# EAGLE library part STM32L412 (library pimoroni-ics)
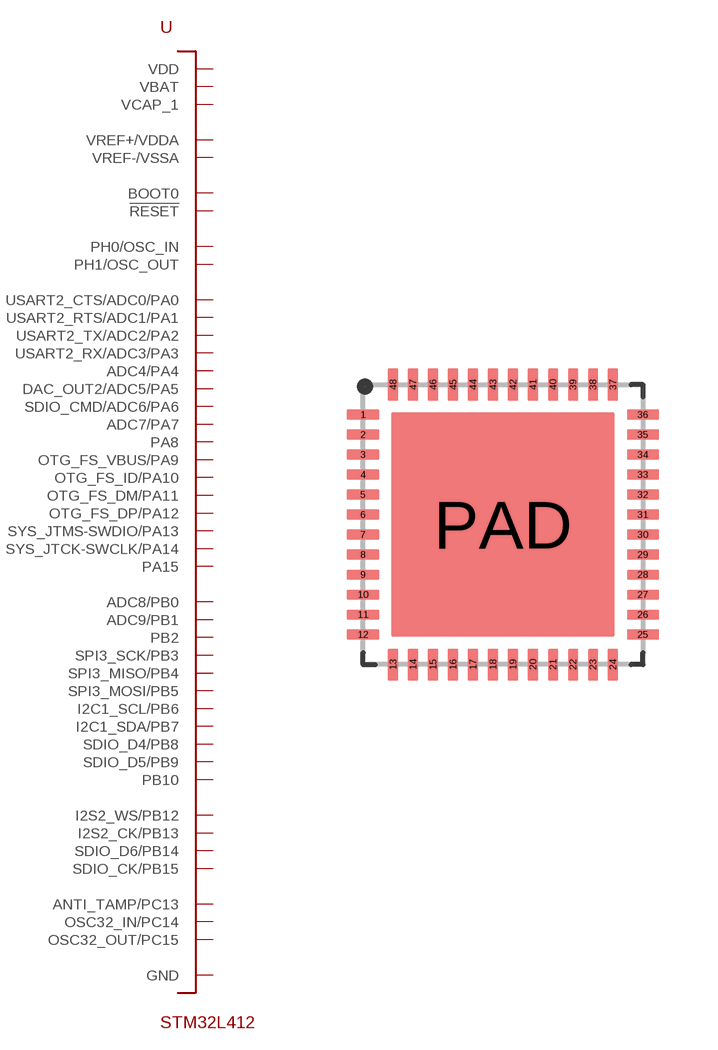
[diagram p138: symbol with the pads of UFQFN48-0.5MM; footprint UFQFN48-0.5MM]

Designator prefix -

## STM32L412  [UFQFN48-0.5MM]
1  VBAT
2  ANTI_TAMP/PC13
3  OSC32_IN/PC14
4  OSC32_OUT/PC15
5  PH0/OSC_IN
6  PH1/OSC_OUT
7  !RESET
8  VREF-/VSSA
9  VREF+/VDDA
10  USART2_CTS/ADC0/PA0
11  USART2_RTS/ADC1/PA1
12  USART2_TX/ADC2/PA2
13  USART2_RX/ADC3/PA3
14  ADC4/PA4
15  DAC_OUT2/ADC5/PA5
16  SDIO_CMD/ADC6/PA6
17  ADC7/PA7
18  ADC8/PB0
19  ADC9/PB1
20  PB2
21  PB10
22  VCAP_1
23  GND
24  VDD
25  I2S2_WS/PB12
26  I2S2_CK/PB13
27  SDIO_D6/PB14
28  SDIO_CK/PB15
29  PA8
30  OTG_FS_VBUS/PA9
31  OTG_FS_ID/PA10
32  OTG_FS_DM/PA11
33  OTG_FS_DP/PA12
34  SYS_JTMS-SWDIO/PA13
35  GND
36  VDD
37  SYS_JTCK-SWCLK/PA14
38  PA15
39  SPI3_SCK/PB3
40  SPI3_MISO/PB4
41  SPI3_MOSI/PB5
42  I2C1_SCL/PB6
43  I2C1_SDA/PB7
44  BOOT0
45  SDIO_D4/PB8
46  SDIO_D5/PB9
47  GND
48  VDD
PAD  GND

## Footprint UFQFN48-0.5MM (pad centres in mm)
smd 0.8 x 0.25: 1 -3.5,2.75; 2 -3.5,2.25; 3 -3.5,1.75; 4 -3.5,1.25; 5 -3.5,0.75; 6 -3.5,0.25; 7 -3.5,-0.25; 8 -3.5,-0.75; 9 -3.5,-1.25; 10 -3.5,-1.75; 11 -3.5,-2.25; 12 -3.5,-2.75; 25 3.5,-2.75; 26 3.5,-2.25; 27 3.5,-1.75; 28 3.5,-1.25; 29 3.5,-0.75; 30 3.5,-0.25; 31 3.5,0.25; 32 3.5,0.75; 33 3.5,1.25; 34 3.5,1.75; 35 3.5,2.25; 36 3.5,2.75
smd 0.25 x 0.8: 13 -2.75,-3.5; 14 -2.25,-3.5; 15 -1.75,-3.5; 16 -1.25,-3.5; 17 -0.75,-3.5; 18 -0.25,-3.5; 19 0.25,-3.5; 20 0.75,-3.5; 21 1.25,-3.5; 22 1.75,-3.5; 23 2.25,-3.5; 24 2.75,-3.5; 37 2.75,3.5; 38 2.25,3.5; 39 1.75,3.5; 40 1.25,3.5; 41 0.75,3.5; 42 0.25,3.5; 43 -0.25,3.5; 44 -0.75,3.5; 45 -1.25,3.5; 46 -1.75,3.5; 47 -2.25,3.5; 48 -2.75,3.5
smd 5.6 x 5.6: PAD 0,0